# Altium schematic symbol library Schlib_LED.SchLib: 1 symbol
Pins are listed as number, name and electrical type; pins without a type are passive.

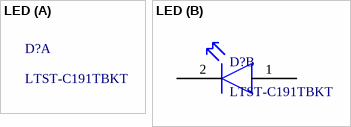
[diagram p0: symbol LED]

## LED
designator D?, comment LTST-C191TBKT
20mA 104mcd Colorless transparent lens -20℃~+80℃ 465nm~475nm Blue 130° 75mW 3.3V 0603 LED Indication - Discrete ROHS; Manufacturer: Lite-On; ComponentLink1Description: Datasheet; ComponentLink1URL: https://www.lcsc.com/datasheet/lcsc_datasheet_1810231510_Lite-On-LTST-C191TBKT_C99290.pdf; Manufacturer part number: LTST-C191TBKT; supplier: LCSC; Supplier part number: C99290
part B pins: 1, 2